# Altium footprint library Protel 99SE BANKS PCB.PCBLIB: 278 footprints (part 9 of 18)
Each footprint in its own frame and in the unit in brackets; x right, y up, seen from the top. Pads: shape width x height; smd on the part's side, far side on the other; paste and mask are expansions set on the pad; w line width, h text height; cw(c..) or ccw(c..) is an arc to the next point about the centre after c.
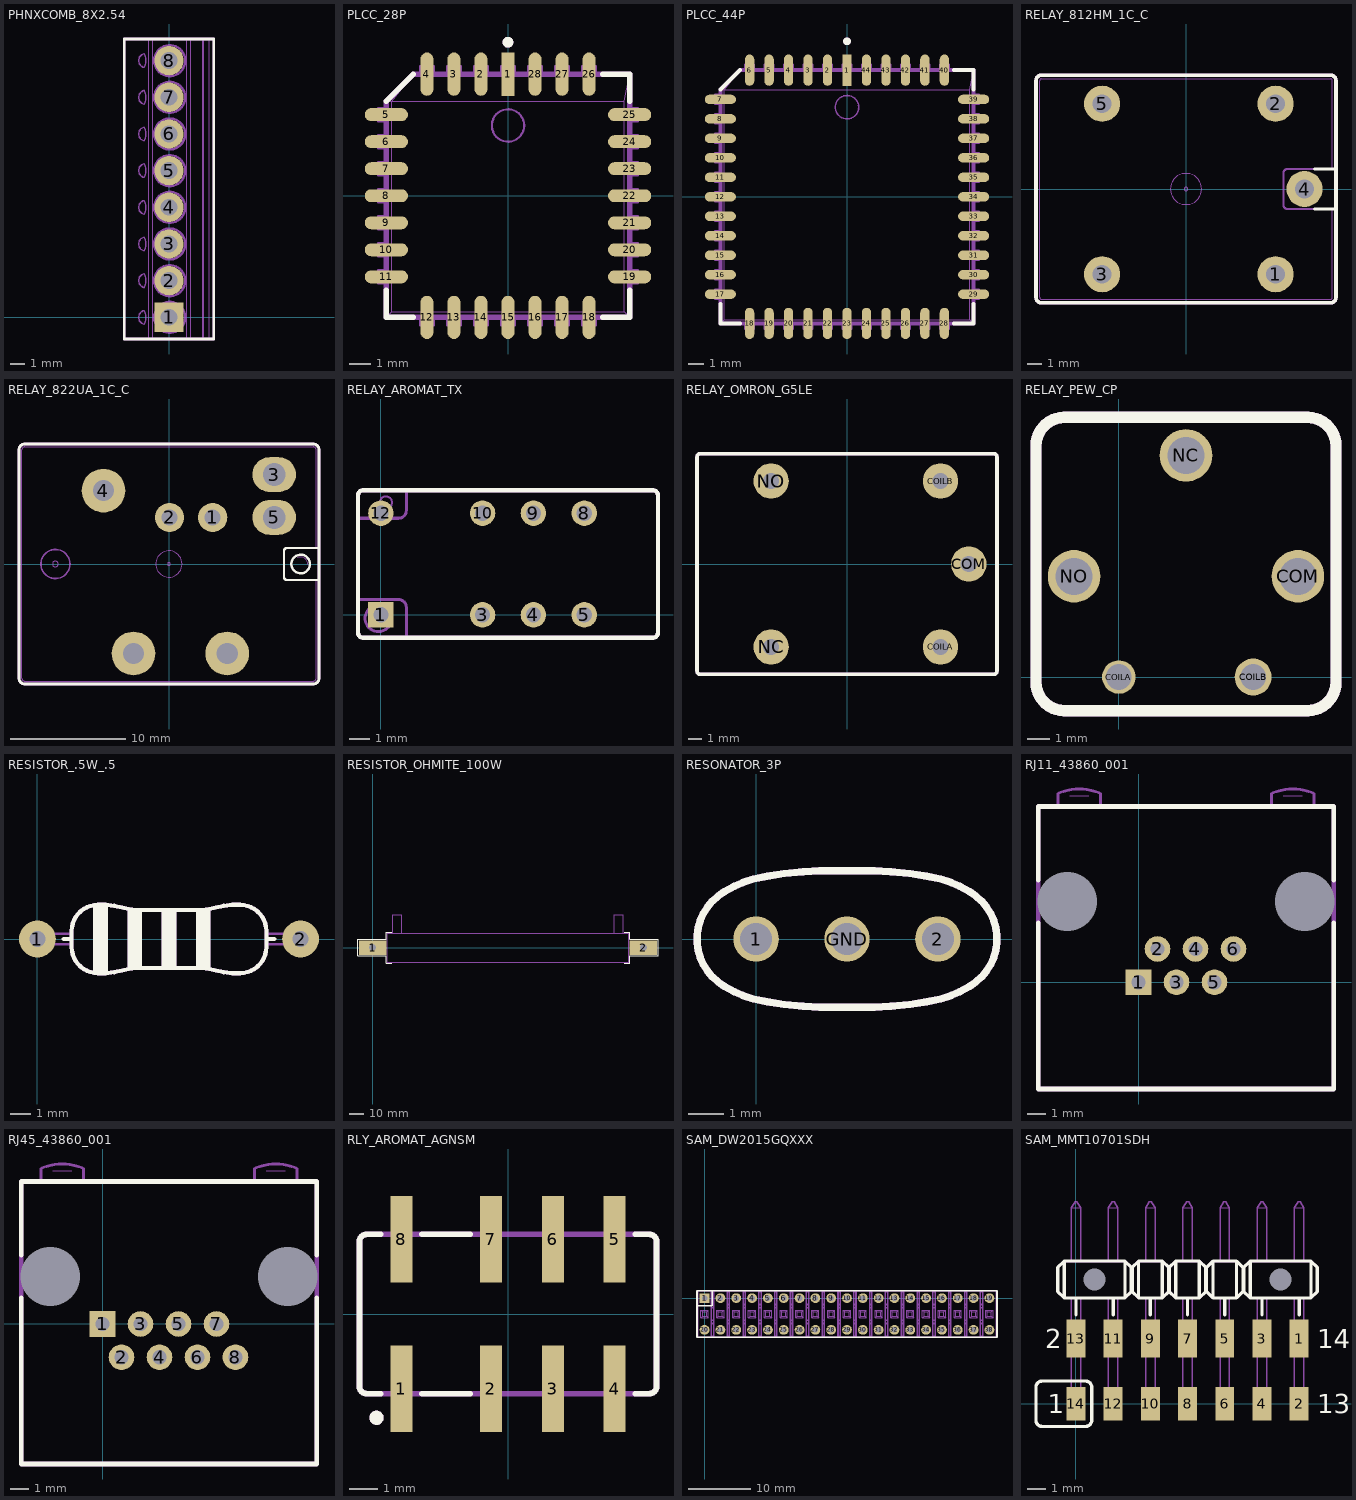
[diagram p8: the footprints below, top view; thin cyan lines are the x and y axes]

## PHNXCOMB_8X2.54 [mil]
pads (8):
  rect 80x80 hole 46: 1(0,0)
  round 80 hole 46: 2(0,100) 3(0,200) 4(0,300) 5(0,400) 6(0,500) 7(0,600) 8(0,700)
TopOverlay:
  lines w8: -122.17,-59.2 -122.17,758.91 121.93,758.91 121.93,-59.2 -122.17,-59.2
Mechanical3:
  drawing of 162 lines, arcs and shapes, not listed

## PLCC_28P [mil]
pads (28):
  rect 24x80 smd: 1(0,225)
  oval 24x80 smd: 2(-50,225) 3(-100,225) 4(-150,225) 12(-150,-225) 13(-100,-225) 14(-50,-225) 15(0,-225) 16(50,-225) 17(100,-225) 18(150,-225) 26(150,225) 27(100,225) 28(50,225)
  oval 80x24 smd: 5(-225,150) 6(-225,100) 7(-225,50) 8(-225,0) 9(-225,-50) 10(-225,-100) 11(-225,-150) 19(225,-150) 20(225,-100) 21(225,-50) 22(225,0) 23(225,50) 24(225,100) 25(225,150)
TopOverlay:
  circle w8: c0,284 r6
  lines w8: -4,284 4,284 ; 0,280 0,288
  lines w10: -225,-175 -225,-225 -175,-225 ; -225,175 -175,225 ; 175,-225 225,-225 225,-175 ; 175,225 225,225 225,175
Mechanical3:
  circle w8: c0,284 r6
  circle w4: c0,130 r30
  lines w2: -225,-225 -215,-215 ; -225,175 215,175 ; -175,225 -215,175 -215,-215 ; 225,-225 215,-215 ; 225,225 215,175 ; -215,-215 215,-215 ; 215,-215 215,175
  lines w4: -225,-162.5 -240,-162.5 ; -225,-137.5 -240,-137.5 ; -225,-112.5 -240,-112.5 ; -225,-87.5 -240,-87.5 ; -225,-62.5 -240,-62.5 ; -225,-37.5 -240,-37.5 ; -225,-12.5 -240,-12.5 ; -225,12.5 -240,12.5 ; -225,37.5 -240,37.5 ; -225,62.5 -240,62.5 ; -225,87.5 -240,87.5 ; -225,112.5 -240,112.5 ; -225,137.5 -240,137.5 ; -225,162.5 -240,162.5 ; -162.5,-225 -162.5,-240 ; -162.5,225 -162.5,240 ; -137.5,-225 -137.5,-240 ; -137.5,225 -137.5,240 ; -112.5,-225 -112.5,-240 ; -112.5,225 -112.5,240 ; -87.5,-225 -87.5,-240 ; -87.5,225 -87.5,240 ; -62.5,-225 -62.5,-240 ; -62.5,225 -62.5,240 ; -37.5,-225 -37.5,-240 ; -37.5,225 -37.5,240 ; -12.5,-225 -12.5,-240 ; -12.5,225 -12.5,240 ; 12.5,-225 12.5,-240 ; 12.5,225 12.5,240 ; 37.5,-225 37.5,-240 ; 37.5,225 37.5,240 ; 62.5,-225 62.5,-240 ; 62.5,225 62.5,240 ; 87.5,-225 87.5,-240 ; 87.5,225 87.5,240 ; 112.5,-225 112.5,-240 ; 112.5,225 112.5,240 ; 137.5,-225 137.5,-240 ; 137.5,225 137.5,240 ; 162.5,-225 162.5,-240 ; 162.5,225 162.5,240 ; 225,-162.5 240,-162.5 ; 225,-137.5 240,-137.5 ; 225,-112.5 240,-112.5 ; 225,-87.5 240,-87.5 ; 225,-62.5 240,-62.5 ; 225,-37.5 240,-37.5 ; 225,-12.5 240,-12.5 ; 225,12.5 240,12.5 ; 225,37.5 240,37.5 ; 225,62.5 240,62.5 ; 225,87.5 240,87.5 ; 225,112.5 240,112.5 ; 225,137.5 240,137.5 ; 225,162.5 240,162.5 ; -240,-162.5 -240,-137.5 ; -240,-162.5 -240,-137.5 ; -240,-112.5 -240,-87.5 ; -240,-112.5 -240,-87.5 ; -240,-62.5 -240,-37.5 ; -240,-62.5 -240,-37.5 ; -240,-12.5 -240,12.5 ; -240,-12.5 -240,12.5 ; -240,37.5 -240,62.5 ; -240,37.5 -240,62.5 ; -240,87.5 -240,112.5 ; -240,87.5 -240,112.5 ; -240,137.5 -240,162.5 ; -240,137.5 -240,162.5 ; -162.5,-240 -137.5,-240 ; -162.5,-240 -137.5,-240 ; -162.5,240 -137.5,240 ; -162.5,240 -137.5,240 ; -112.5,-240 -87.5,-240 ; -112.5,-240 -87.5,-240 ; -112.5,240 -87.5,240 ; -112.5,240 -87.5,240 ; -62.5,-240 -37.5,-240 ; -62.5,-240 -37.5,-240 ; -62.5,240 -37.5,240 ; -62.5,240 -37.5,240 ; -12.5,-240 12.5,-240 ; -12.5,-240 12.5,-240 ; -12.5,240 12.5,240 ; -12.5,240 12.5,240 ; 37.5,-240 62.5,-240 ; 37.5,-240 62.5,-240 ; 37.5,240 62.5,240 ; 37.5,240 62.5,240 ; 87.5,-240 112.5,-240 ; 87.5,-240 112.5,-240 ; 87.5,240 112.5,240 ; 87.5,240 112.5,240 ; 137.5,-240 162.5,-240 ; 137.5,-240 162.5,-240 ; 137.5,240 162.5,240 ; 137.5,240 162.5,240 ; 240,-162.5 240,-137.5 ; 240,-162.5 240,-137.5 ; 240,-112.5 240,-87.5 ; 240,-112.5 240,-87.5 ; 240,-62.5 240,-37.5 ; 240,-62.5 240,-37.5 ; 240,-12.5 240,12.5 ; 240,-12.5 240,12.5 ; 240,37.5 240,62.5 ; 240,37.5 240,62.5 ; 240,87.5 240,112.5 ; 240,87.5 240,112.5 ; 240,137.5 240,162.5 ; 240,137.5 240,162.5
  lines w6: -225,175 -175,225
  lines w8: -4,284 4,284 ; 0,280 0,288
  lines w10: -225,-225 -225,175 -175,225 225,225 225,-225 -225,-225

## PLCC_44P [mil]
pads (44):
  rect 24x80 smd: 1(0,325)
  oval 24x80 smd: 2(-50,325) 3(-100,325) 4(-150,325) 5(-200,325) 6(-250,325) 18(-250,-325) 19(-200,-325) 20(-150,-325) 21(-100,-325) 22(-50,-325) 23(0,-325) 24(50,-325) 25(100,-325) 26(150,-325) 27(200,-325) 28(250,-325) 40(250,325) 41(200,325) 42(150,325) 43(100,325) 44(50,325)
  oval 80x24 smd: 7(-325,250) 8(-325,200) 9(-325,150) 10(-325,100) 11(-325,50) 12(-325,0) 13(-325,-50) 14(-325,-100) 15(-325,-150) 16(-325,-200) 17(-325,-250) 29(325,-250) 30(325,-200) 31(325,-150) 32(325,-100) 33(325,-50) 34(325,0) 35(325,50) 36(325,100) 37(325,150) 38(325,200) 39(325,250)
TopOverlay:
  circle w8: c0,399 r6
  lines w8: -4,399 4,399 ; 0,395 0,403
  lines w10: -325,-275 -325,-325 -275,-325 ; -325,275 -275,325 ; 275,-325 325,-325 325,-275 ; 275,325 325,325 325,275
Mechanical3:
  drawing of 194 lines, arcs and shapes, not listed

## RELAY_812HM_1C_C [mil]
pads (5):
  round 100 hole 52: 1(248,-236) 2(248,236) 3(-232,-236) 4(328,0) 5(-232,236)
TopOverlay:
  lines w8: 355,-55 415,-55 ; 355,55 415,55
  lines w10: -415,-300 ccw(c-400,-300) -400,-315 400,-315 ccw(c400,-300) 415,-300 415,300 ccw(c400,300) 400,315 -400,315 ccw(c-400,300) -415,300 -415,-300
Mechanical3:
  circle w2: c405,-55 r0
  circle w2: c415,-55 r0
  circle w6: c341,0 r32
  circle w2: c0,0 r43
  circle w2: c0,0 r5
  lines w2: 329,20.78 cw(c341,0) 365,0 ; 405,-55 405,-300 cw(c400,-300) 400,-305 -400,-305 cw(c-400,-300) -405,-300 -405,300 cw(c-400,300) -400,305 400,305 cw(c400,300) 405,300 405,55
  lines w6: 415,-55 280,-55 cw(c280,-45) 270,-45 270,45 cw(c280,45) 280,55 415,55
  lines w10: -415,-300 ccw(c-400,-300) -400,-315 400,-315 ccw(c400,-300) 415,-300 415,300 ccw(c400,300) 400,315 -400,315 ccw(c-400,300) -415,300 -415,-300

## RELAY_822UA_1C_C [mil]
pads (7):
  round 100 hole 55: 1(150,160) 2(2,160)
  oval 150x120 hole 78: 3(361,307) 5(361,160)
  round 150 hole 73: 4(-225,252) ""(-122,-307) ""(200,-307)
TopOverlay:
  circle w8: c515,-55 r0
  circle w8: c452,0 r32
  lines w8: 515,-55 405,-55 cw(c405,-45) 395,-45 395,45 cw(c405,45) 405,55 515,55
  lines w10: -515,-392 ccw(c-495,-392) -495,-412 495,-412 ccw(c495,-392) 515,-392 515,392 ccw(c495,392) 495,412 -495,412 ccw(c-495,392) -515,392 -515,-392
Mechanical3:
  circle w2: c515,-55 r0
  circle w6: c452,0 r32
  circle w2: c0,0 r45
  circle w2: c0,0 r5
  circle w2: c-390,0 r10
  circle w6: c-390,0 r50
  lines w2: 440,20.78 cw(c452,0) 476,0 ; 505,-55 505,-392 cw(c495,-392) 495,-402 -495,-402 cw(c-495,-392) -505,-392 -505,392 cw(c-495,392) -495,402 495,402 cw(c495,392) 505,392 505,55
  lines w6: 515,-55 405,-55 cw(c405,-45) 395,-45 395,45 cw(c405,45) 405,55 515,55
  lines w10: -515,-392 ccw(c-495,-392) -495,-412 495,-412 ccw(c495,-392) 515,-392 515,392 ccw(c495,392) 495,412 -495,412 ccw(c-495,392) -515,392 -515,-392

## RELAY_AROMAT_TX [mil]
pads (8):
  rect 50x50 hole 30: 1(0,0)
  round 50 hole 30: 3(200,0) 4(300,0) 5(400,0) 8(400,200) 9(300,200) 10(200,200) 12(0,200)
TopOverlay:
  lines w8: -45,-35 ccw(c-35,-35) -35,-45 495,-45 535,-45 ccw(c535,-35) 545,-35 545,235 ccw(c535,235) 535,245 -35,245 ccw(c-35,235) -45,235 -45,-35
Mechanical3:
  circle w6: c-5,-7 r26
  circle w4: c10,221 r12
  lines w6: -45,30 35,30 cw(c35,15) 50,15 50,-45 ; -45,190 35,190 ccw(c35,205) 50,205 50,245
  lines w8: -45,-35 ccw(c-35,-35) -35,-45 535,-45 ccw(c535,-35) 545,-35 545,235 ccw(c535,235) 535,245 -35,245 ccw(c-35,235) -45,235 -45,-35

## RELAY_OMRON_G5LE [mil]
pads (5):
  round 100 hole 46: COILA(265,-235) COILB(265,235) COM(345,0) NC(-215,-235) NO(-215,235)
TopOverlay:
  lines w10: -425,-303 ccw(c-415,-303) -415,-313 415,-313 ccw(c415,-303) 425,-303 425,303 ccw(c415,303) 415,313 -415,313 ccw(c-415,303) -425,303 -425,-303
Mechanical3:
  lines w10: -425,-303 ccw(c-415,-303) -415,-313 415,-313 ccw(c415,-303) 425,-303 425,303 ccw(c415,303) 415,313 -415,313 ccw(c-415,303) -425,303 -425,-303

## RELAY_PEW_CP [mm]
height 9.5
pads (5):
  round 1.5 hole 1.15: COILA(0,0)
  round 1.65 hole 1.15: COILB(6,0)
  round 2.35 hole 1.65: COM(8,4.5) NC(3,9.9) NO(-2,4.5)
TopOverlay:
  lines w0.508: -3.7,-0.23 ccw(c-2.43,-0.23) -2.43,-1.5 8.43,-1.5 ccw(c8.43,-0.23) 9.7,-0.23 9.7,10.33 ccw(c8.43,10.33) 8.43,11.6 3,11.6 -2.43,11.6 ccw(c-2.43,10.33) -3.7,10.33 -3.7,-0.23
Mechanical3:
  lines w0.508: -3.7,-0.23 ccw(c-2.43,-0.23) -2.43,-1.5 0,-1.5 8.43,-1.5 ccw(c8.43,-0.23) 9.7,-0.23 9.7,4.5 9.7,10.33 ccw(c8.43,10.33) 8.43,11.6 3,11.6 -2.43,11.6 ccw(c-2.43,10.33) -3.7,10.33 -3.7,4.5 -3.7,-0.23

## RESISTOR_.5W_.5 [mil]
pads (2):
  round 70 hole 30: 1(0,0) 2(500,0)
TopOverlay:
  lines w8: 50,0 65,0 ; 110,-64 110,64 ; 120,-65 120,65 ; 125,-65 125,65 ; 175,-55 175,55 ; 180,-55 180,55 ; 185,-55 185,55 ; 190,-55 190,55 ; 195,-55 195,55 ; 240,-55 240,55 ; 245,-55 245,55 ; 250,-55 250,55 ; 255,-55 255,55 ; 260,-55 260,55 ; 305,-55 305,55 ; 310,-55 310,55 ; 315,-55 315,55 ; 320,-55 320,55 ; 325,-55 325,55 ; 435,0 450,0 ; 115,-65 cw(c115,-15) 65,-15 65,15 cw(c115,15) 115,65 ; 115,-65 130,-65 ; 115,-65 115,65 ; 115,65 130,65 ; 130,-65 146,-63 161,-60 173,-57 189,-55 311,-55 327,-57 339,-60 354,-63 370,-65 385,-65 ccw(c385,-15) 435,-15 435,15 ccw(c385,15) 385,65 370,65 354,63 339,60 327,57 311,55 189,55 173,57 161,60 146,63 130,65 ; 130,-65 130,65
Mechanical3:
  lines w4: 65,-10 0,-10 cw(c0,0) 0,10 65,10 ; 435,-10 500,-10 ccw(c500,0) 500,10 435,10
  lines w8: 110,-64 110,64 ; 120,-65 120,65 ; 125,-65 125,65 ; 175,-55 175,55 ; 180,-55 180,55 ; 185,-55 185,55 ; 190,-55 190,55 ; 195,-55 195,55 ; 240,-55 240,55 ; 245,-55 245,55 ; 250,-55 250,55 ; 255,-55 255,55 ; 260,-55 260,55 ; 305,-55 305,55 ; 310,-55 310,55 ; 315,-55 315,55 ; 320,-55 320,55 ; 325,-55 325,55 ; 115,-65 cw(c115,-15) 65,-15 65,15 cw(c115,15) 115,65 ; 115,-65 130,-65 ; 115,-65 115,65 ; 115,65 130,65 ; 130,-65 146,-63 161,-60 173,-57 189,-55 311,-55 327,-57 339,-60 354,-63 370,-65 385,-65 ccw(c385,-15) 435,-15 435,15 ccw(c385,15) 385,65 370,65 354,63 339,60 327,57 311,55 189,55 173,57 161,60 146,63 130,65 ; 130,-65 130,65

## RESISTOR_OHMITE_100W [mil] "Ohmite 100W Resistor on metal brackets"
height 1673.23
pads (2):
  rect 750x390 hole 190: 1(0,0) 2(7400,0)
TopOverlay:
  lines w10: 525,-425 375,-425 375,-225 -400,-225 -400,225 375,225 375,425 525,425 ; 6875,-425 7025,-425 7025,-225 7800,-225 7800,225 7025,225 7025,425 6875,425
Mechanical3:
  lines w10: 550,400 550,900 800,900 800,400 ; 6600,400 6600,900 6850,900 6850,400 ; 400,-400 400,400 7000,400 7000,-400 400,-400

## RESONATOR_3P [mil]
pads (3):
  round 50 hole 35: 1(0,0) 2(200,0) GND(100,0)
TopOverlay:
  lines w8: -35,-52 -24,-58 -15,-62 -3,-66 12,-69 31,-72 52,-74 70,-75 100,-75 130,-75 148,-74 169,-72 188,-69 203,-66 215,-62 224,-58 235,-52 ; -35,-51.96 cw(c-5,0) -35,51.96 ; -35,52 -24,58 -15,62 -3,66 12,69 31,72 52,74 70,75 100,75 130,75 148,74 169,72 188,69 203,66 215,62 224,58 235,52 ; 235,-51.96 ccw(c205,0) 235,51.96
Mechanical3:
  lines w8: -35,-52 -24,-58 -15,-62 -3,-66 12,-69 31,-72 52,-74 70,-75 100,-75 130,-75 148,-74 169,-72 188,-69 203,-66 215,-62 224,-58 235,-52 ; -35,-51.96 cw(c-5,0) -35,51.96 ; -35,52 -24,58 -15,62 -3,66 12,69 31,72 52,74 70,75 100,75 130,75 148,74 169,72 188,69 203,66 215,62 224,58 235,52 ; 235,-51.96 ccw(c205,0) 235,51.96

## RJ11_43860_001 [mil]
pads (8):
  rect 54x54 hole 30: 1(0,0)
  round 54 hole 30: 2(40,70) 3(80,0) 4(120,70) 5(160,0) 6(200,70)
  round 30 hole 125 unplated: ""(-150,170) ""(350,170)
TopOverlay:
  lines w10: -211,125 -211,-225 411,-225 411,125 ; -211,215 -211,370 411,370 411,215
Mechanical3:
  lines w2: -145,393 -105,393 ; 305,393 345,393
  lines w6: -170,370 -170,397 -166.5,399 -164,400 -158,402 -154.5,403 -150.5,404 -146,405 -141,406 -138,406.5 -133,407 -129,407 -125,407 -121,407 -117,407 -112,406.5 -109,406 -104,405 -99.5,404 -95.5,403 -92,402 -86,400 -83.5,399 -80,397 -80,370 ; 280,370 280,397 283.5,399 286,400 292,402 295.5,403 299.5,404 304,405 309,406 312,406.5 317,407 321,407 325,407 329,407 333,407 338,406.5 341,406 346,405 350.5,404 354.5,403 358,402 364,400 366.5,399 370,397 370,370
  lines w10: -211,-225 -211,370 411,370 411,-225 -211,-225

## RJ45_43860_001 [mil]
pads (10):
  rect 54x54 hole 30: 1(0,0)
  round 54 hole 30: 2(40,-70) 3(80,0) 4(120,-70) 5(160,0) 6(200,-70) 7(240,0) 8(280,-70)
  round 30 hole 125 unplated: ""(-110,100) ""(390,100)
TopOverlay:
  lines w10: -171,55 -171,-295 451,-295 451,55 ; -171,145 -171,300 451,300 451,145
Mechanical3:
  lines w2: -105,323 -65,323 ; 345,323 385,323
  lines w6: -130,300 -130,327 -126.5,329 -124,330 -118,332 -114.5,333 -110.5,334 -106,335 -101,336 -98,336.5 -93,337 -89,337 -85,337 -81,337 -77,337 -72,336.5 -69,336 -64,335 -59.5,334 -55.5,333 -52,332 -46,330 -43.5,329 -40,327 -40,300 ; 320,300 320,327 323.5,329 326,330 332,332 335.5,333 339.5,334 344,335 349,336 352,336.5 357,337 361,337 365,337 369,337 373,337 378,336.5 381,336 386,335 390.5,334 394.5,333 398,332 404,330 406.5,329 410,327 410,300
  lines w10: -171,-295 451,-295 451,300 -171,300 -171,-295

## RLY_AROMAT_AGNSM [mil]
pads (8):
  rect 31x122 smd: 1(-150,-105) 2(-24,-105) 3(63,-105) 4(150,-105) 5(150,105) 6(63,105) 7(-24,105) 8(-150,105)
TopOverlay:
  circle w8: c-185,-146 r6
  lines w8: -189,-146 -181,-146 ; -185,-150 -185,-142 ; -179,-112 -199,-112 cw(c-199,-102) -209,-102 -209,102 cw(c-199,102) -199,112 -179,112 ; -121,-112 -53,-112 ; -121,112 -53,112 ; 179,-112 199,-112 ccw(c199,-102) 209,-102 209,102 ccw(c199,102) 199,112 179,112
Mechanical3:
  circle w8: c-185,-146 r6
  lines w8: -189,-146 -181,-146 ; -185,-150 -185,-142 ; -209,-102 ccw(c-199,-102) -199,-112 199,-112 ccw(c199,-102) 209,-102 209,102 ccw(c199,102) 199,112 -199,112 ccw(c-199,102) -209,102 -209,-102

## SAM_DW2015GQXXX [mil]
pads (38):
  rect 62x62 hole 35: 1(0,0)
  round 62 hole 35: 2(100,0) 3(200,0) 4(300,0) 5(400,0) 6(500,0) 7(600,0) 8(700,0) 9(800,0) 10(900,0) 11(1000,0) 12(1100,0) 13(1200,0) 14(1300,0) 15(1400,0) 16(1500,0) 17(1600,0) 18(1700,0) 19(1800,0) 20(0,-200) 21(100,-200) 22(200,-200) 23(300,-200) 24(400,-200) 25(500,-200) 26(600,-200) 27(700,-200) 28(800,-200) 29(900,-200) 30(1000,-200) 31(1100,-200) 32(1200,-200) 33(1300,-200) 34(1400,-200) 35(1500,-200) 36(1600,-200) 37(1700,-200) 38(1800,-200)
TopOverlay:
  lines w10: -48,-48 48,-48 48,48 ; -48,-248 1848,-248 1848,48 -48,48 -48,-248
Mechanical3:
  drawing of 886 lines, arcs and shapes, not listed

## SAM_MMT10701SDH [mil]
pads (16):
  rect 40x80 smd: 1(472.44,138) 3(393.7,138) 5(314.96,138) 7(236.22,138) 9(157.48,138) 11(78.74,138) 13(0,138)
  rect 40x70 smd: 2(472.44,0) 4(393.7,0) 6(314.96,0) 8(236.22,0) 10(157.48,0) 12(78.74,0) 14(0,0)
  round 20 hole 47 unplated: ""(39.37,263)
  round 24 hole 47 unplated: ""(433.07,263)
TopOverlay:
  lines w7: 0,188 0,224 ; 78.74,188 78.74,224 ; 157.48,188 157.48,224 ; 236.22,188 236.22,224 ; 314.96,188 314.96,224 ; 393.7,188 393.7,224 ; 472.44,188 472.44,224 ; -25,224 103.74,224 ; -25,224 -25,302 ; -25,224 -38.5,237.5 -38.5,288.5 -25,302 ; -25,302 103.74,302 ; 103.74,224 117.24,237.5 117.24,288.5 103.74,302 ; 103.74,224 103.74,302 ; 132.48,224 132.48,302 ; 132.48,224 118.98,237.5 118.98,288.5 132.48,302 ; 132.48,224 182.48,224 ; 132.48,302 182.48,302 ; 182.48,224 195.98,237.5 195.98,288.5 182.48,302 ; 182.48,224 182.48,302 ; 211.22,224 211.22,302 ; 211.22,224 197.72,237.5 197.72,288.5 211.22,302 ; 211.22,224 261.22,224 ; 211.22,302 261.22,302 ; 261.22,224 274.72,237.5 274.72,288.5 261.22,302 ; 261.22,224 261.22,302 ; 289.96,224 289.96,302 ; 289.96,224 276.46,237.5 276.46,288.5 289.96,302 ; 289.96,224 339.96,224 ; 289.96,302 339.96,302 ; 339.96,224 353.46,237.5 353.46,288.5 339.96,302 ; 339.96,224 339.96,302 ; 355.2,237.5 368.7,224 ; 355.2,237.5 355.2,288.5 ; 355.2,237.5 355.2,288.5 ; 355.2,288.5 368.7,302 ; 368.7,224 368.7,302 ; 368.7,224 497.44,224 ; 368.7,302 497.44,302 ; 497.44,224 510.94,237.5 510.94,288.5 497.44,302 ; 497.44,224 497.44,302 ; -84.68,-35 ccw(c-71.68,-35) -71.68,-48 20.32,-48 ccw(c20.32,-35) 33.32,-35 33.32,35 ccw(c20.32,35) 20.32,48 -71.68,48 ccw(c-71.68,35) -84.68,35 -84.68,-35
  text "1" at -59.68,-20 h40
  text "2" at -64.68,118 h40
  text "13" at 510.44,-20 h40
  text "14" at 510.44,118 h40
Mechanical3:
  lines w2: -10,415 10,415 ; -3,28 3,28 ; -3,153 3,153 ; 68.74,415 88.74,415 ; 75.74,28 81.74,28 ; 75.74,153 81.74,153 ; 147.48,415 167.48,415 ; 154.48,28 160.48,28 ; 154.48,153 160.48,153 ; 226.22,415 246.22,415 ; 233.22,28 239.22,28 ; 233.22,153 239.22,153 ; 304.96,415 324.96,415 ; 311.96,28 317.96,28 ; 311.96,153 317.96,153 ; 383.7,415 403.7,415 ; 390.7,28 396.7,28 ; 390.7,153 396.7,153 ; 462.44,415 482.44,415 ; 469.44,28 475.44,28 ; 469.44,153 475.44,153
  lines w3: -10,224 -10,-21 10,-21 10,224 ; -10,302 -10,415 -2,428 2,428 10,415 10,302 ; 68.74,224 68.74,-21 88.74,-21 88.74,224 ; 68.74,302 68.74,415 76.74,428 80.74,428 88.74,415 88.74,302 ; 147.48,224 147.48,-21 167.48,-21 167.48,224 ; 147.48,302 147.48,415 155.48,428 159.48,428 167.48,415 167.48,302 ; 226.22,224 226.22,-21 246.22,-21 246.22,224 ; 226.22,302 226.22,415 234.22,428 238.22,428 246.22,415 246.22,302 ; 304.96,224 304.96,-21 324.96,-21 324.96,224 ; 304.96,302 304.96,415 312.96,428 316.96,428 324.96,415 324.96,302 ; 383.7,224 383.7,-21 403.7,-21 403.7,224 ; 383.7,302 383.7,415 391.7,428 395.7,428 403.7,415 403.7,302 ; 462.44,224 462.44,-21 482.44,-21 482.44,224 ; 462.44,302 462.44,415 470.44,428 474.44,428 482.44,415 482.44,302
  lines w4: -25,224 -25,302 ; 103.74,224 103.74,302 ; 132.48,224 132.48,302 ; 182.48,224 182.48,302 ; 211.22,224 211.22,302 ; 261.22,224 261.22,302 ; 289.96,224 289.96,302 ; 339.96,224 339.96,302 ; 368.7,224 368.7,302 ; 497.44,224 497.44,302
  lines w5: 353.46,237.5 353.46,288.5 ; 353.46,237.5 353.46,288.5 ; 353.46,237.5 339.96,224 289.96,224 276.46,237.5 276.46,288.5 289.96,302 339.96,302 353.46,288.5 ; 355.2,237.5 368.7,224 497.44,224 510.94,237.5 510.94,288.5 497.44,302 368.7,302 355.2,288.5 ; 355.2,237.5 355.2,288.5 ; 355.2,237.5 355.2,288.5 ; -38.5,237.5 -25,224 103.74,224 117.24,237.5 117.24,288.5 103.74,302 -25,302 -38.5,288.5 -38.5,237.5 ; 118.98,237.5 132.48,224 182.48,224 195.98,237.5 195.98,288.5 182.48,302 132.48,302 118.98,288.5 118.98,237.5 ; 197.72,237.5 211.22,224 261.22,224 274.72,237.5 274.72,288.5 261.22,302 211.22,302 197.72,288.5 197.72,237.5